# Altium footprint library MPU6050模块.PcbLib: 1 footprints
Each footprint in its own frame and in the unit in brackets; x right, y up, seen from the top. Pads: shape width x height; smd on the part's side, far side on the other; paste and mask are expansions set on the pad; w line width, h text height; cw(c..) or ccw(c..) is an arc to the next point about the centre after c.
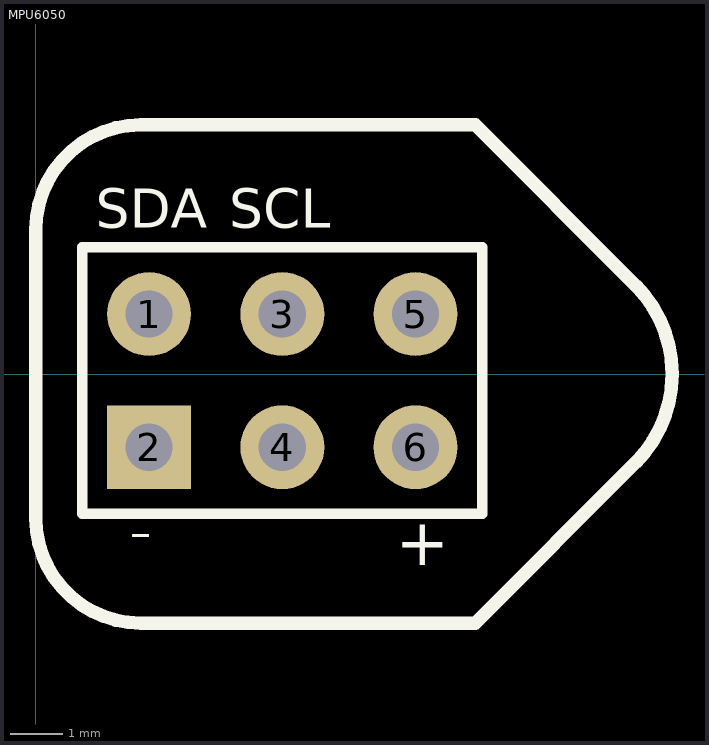
[diagram p0: the footprint, top view; thin cyan lines are the x and y axes]

## MPU6050 [mm] "单模块"
height 13
pads (6):
  round 1.6 hole 0.9: 1(2.159,1.143) 3(4.699,1.143) 4(4.699,-1.397) 5(7.239,1.143) 6(7.239,-1.397)
  rect 1.6x1.6 hole 0.9: 2(2.159,-1.397)
Top Overlay:
  lines w0.2: 3.641,-2.667 8.509,-2.667 ; 8.509,-2.667 8.509,2.413 0.889,2.413 0.889,-2.667 8.509,-2.667
  lines w0.254: 0,-2.75 ccw(c2,-2.75) 2,-4.75 8.375,-4.75 11.43,-1.695 ccw(c9.735,0) 11.43,1.695 8.375,4.75 2,4.75 ccw(c2,2.75) 0,2.75 0,-2.75
  text "SDA" at 1.143,2.54 h1.27
  text "SCL" at 3.683,2.54 h1.27
  text "-" at 1.778,-3.683 h1.52
  text "+" at 6.858,-3.937 h1.52
Mechanical 15:
  lines w0.003: 4.636,-0.561 4.635,-0.56
3D body "HDR2.54-1x2P.STEP": height 8.5, standoff -3, extent 5.969,-2.667 8.509,2.413
3D body "HDR2.54-1x2P.STEP": height 8.5, standoff -3, extent 0.889,-2.667 3.429,2.413
3D body "HDR2.54-1x2P.STEP": height 8.5, standoff -3, extent 3.429,-2.667 5.969,2.413